# EAGLE library part SW-2P-2T (library sw)
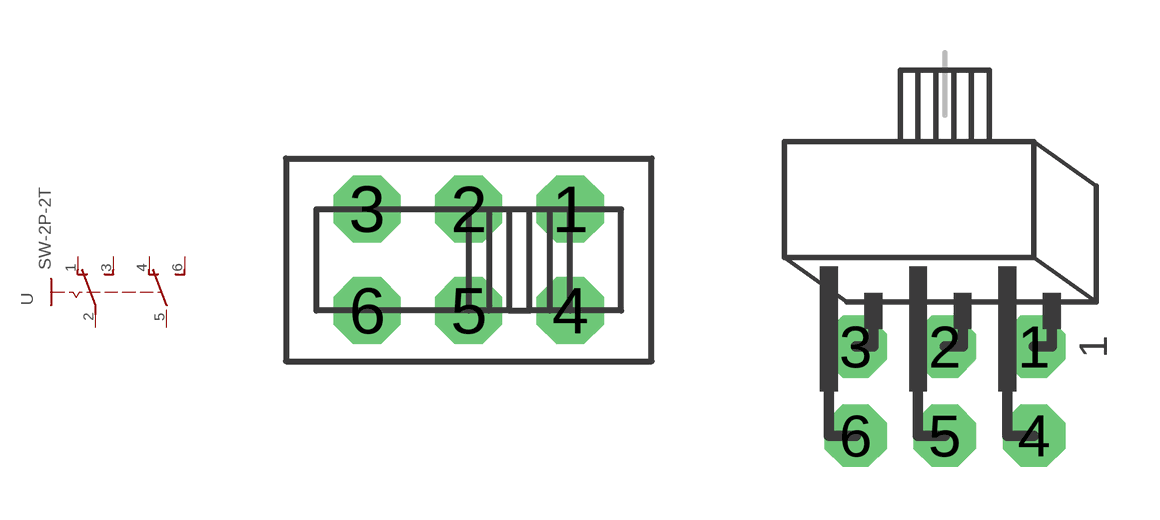
[diagram p3: symbol with the pads of SLSW-2P2T; footprints SLSW-2P2T, SLSW-2P2T-3D]

Designator prefix -

## SW-2P-2T  [SLSW-2P2T]
1  O  pas
2  P  pas
3  S  pas
4  O1  pas
5  P1  pas
6  S1  pas

## SW-2P-2T-3D  [SLSW-2P2T-3D]
Pads as for SLSW-2P2T

## SW-2P-2T-H  [SLSW-2P2T-H]
Pads as for SLSW-2P2T

## SW-2P-2T-V  [SLSW-2P2T-V]
Pads as for SLSW-2P2T

## Footprint SLSW-2P2T (pad centres in mm)
drill 1.118 pad 1.524 octagon: 1 2.54,1.27; 2 0,1.27; 3 -2.54,1.27; 4 2.54,-1.27; 5 0,-1.27; 6 -2.54,-1.27

## Footprint SLSW-2P2T-3D (pad centres in mm)
drill 1.118 pad 1.778 octagon: 1 2.54,1.27; 2 0,1.27; 3 -2.54,1.27; 4 2.54,-1.27; 5 0,-1.27; 6 -2.54,-1.27

## Footprint SLSW-2P2T-H (pad centres in mm)
drill 1.118 pad 1.524 octagon: 1 2.54,1.27; 2 0,1.27; 3 -2.54,1.27; 4 2.54,-1.27; 5 0,-1.27; 6 -2.54,-1.27

## Footprint SLSW-2P2T-V (pad centres in mm)
drill 1 octagon: 1 2.54,1.27; 2 0,1.27; 3 -2.54,1.27; 4 2.54,-1.27; 5 0,-1.27; 6 -2.54,-1.27